# Altium integrated library MCP6002-E_P.IntLib: 1 symbol
Pins are listed as number, name and electrical type; pins without a type are passive.

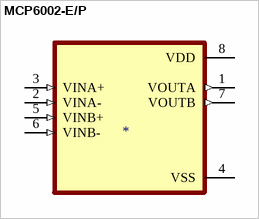
[diagram p0: symbol MCP6002-E/P]

## MCP6002-E/P
designator ?
General Purpose Amplifier 2 Circuit Rail-to-Rail 8-PDIP; MP: MCP6002-E/P; MF: Microchip; Value: *; Availability: Unavailable; Price: None; Package: DIP-8 Microchip; SnapEDA_Link: https://www.snapeda.com/parts/MCP6002-E/P/Microchip/view-part/228325/?ref=snap
footprint DIP787W46P254L927H533Q8
pins: 1 VOUTA (out), 2 VINA- (in), 3 VINA+ (in), 4 VSS (power), 5 VINB+ (in), 6 VINB- (in), 7 VOUTB (out), 8 VDD (power)